# Altium footprint library CONECTER.PcbLib: 145 footprints (part 5 of 10)
Each footprint in its own frame and in the unit in brackets; x right, y up, seen from the top. Pads: shape width x height; smd on the part's side, far side on the other; paste and mask are expansions set on the pad; w line width, h text height; cw(c..) or ccw(c..) is an arc to the next point about the centre after c.
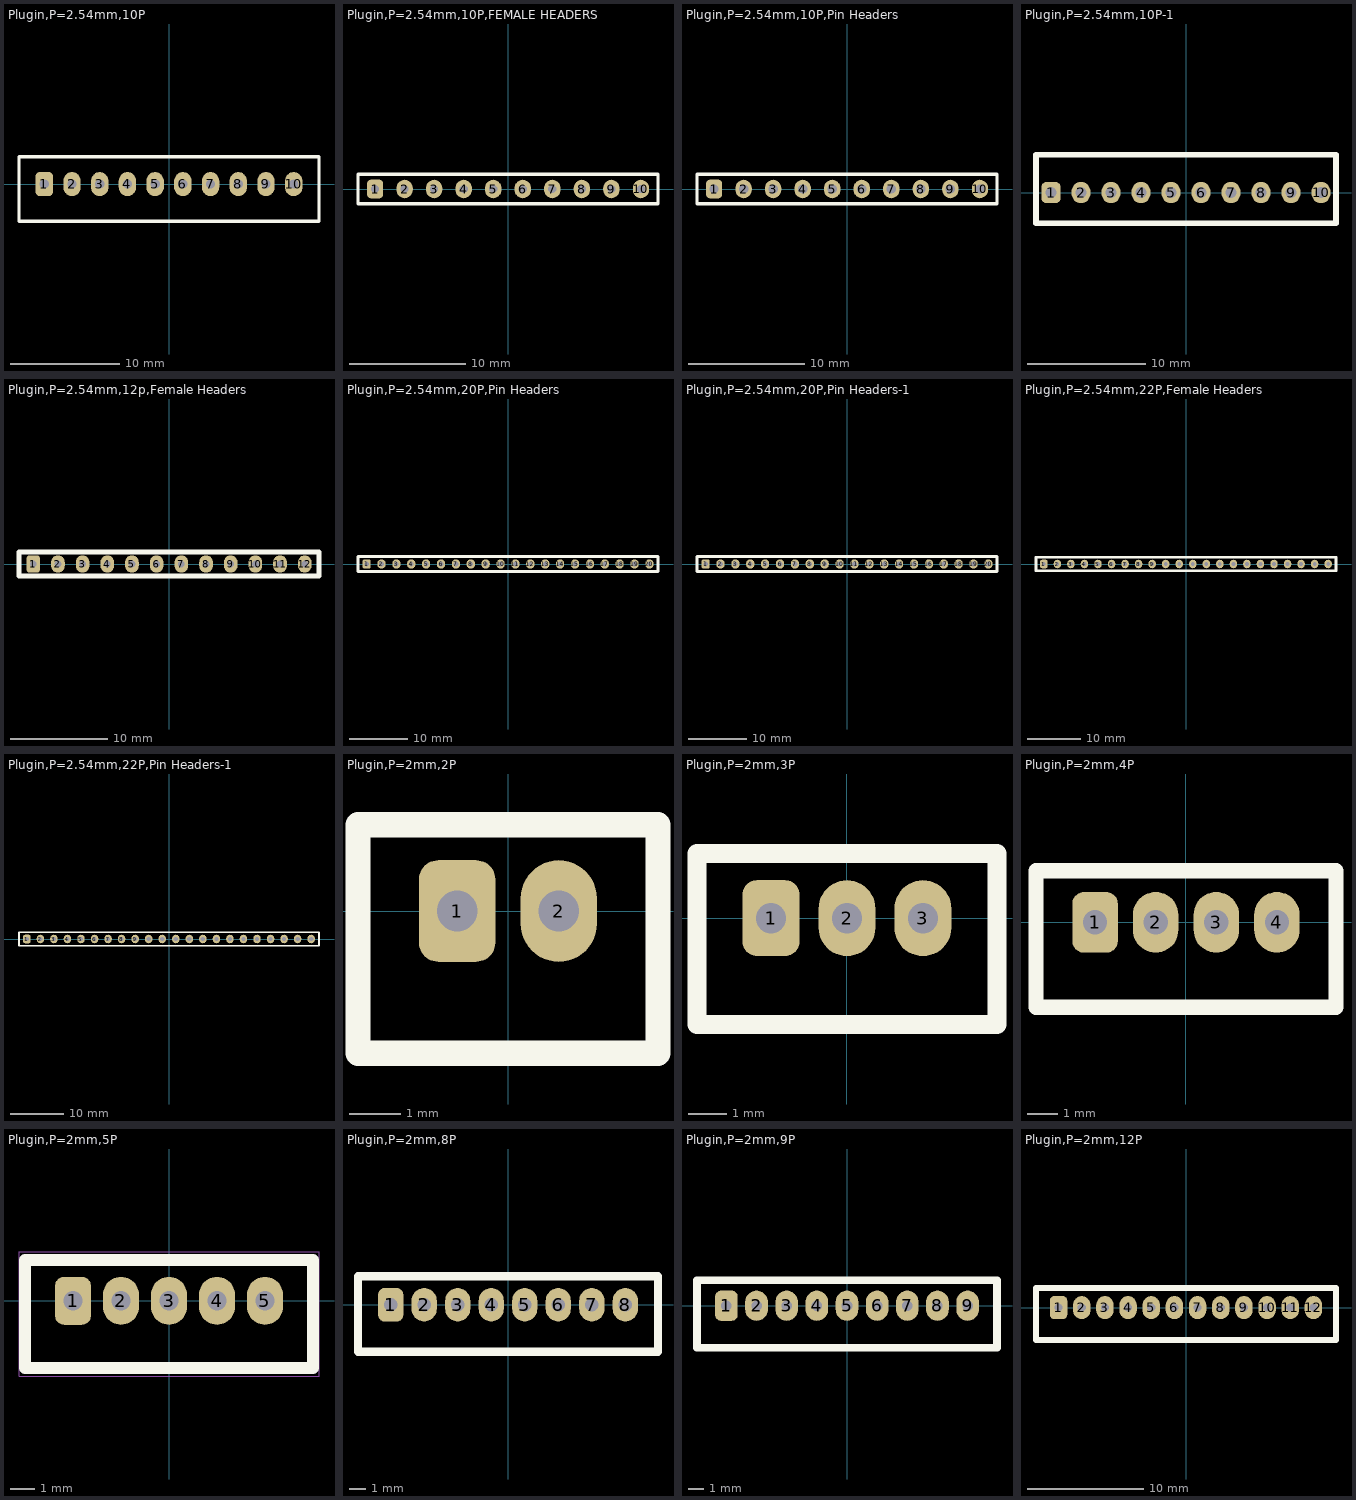
[diagram p4: the footprints below, top view; thin cyan lines are the x and y axes]

## Plugin,P=2.54mm,10P [mm]
pads (10):
  rrect50% 1.6x2.2 hole 0.85: 1(-11.43,0)
  oval 1.6x2.2 hole 0.85: 2(-8.89,0) 3(-6.35,0) 4(-3.81,0) 5(-1.27,0) 6(1.27,0) 7(3.81,0) 8(6.35,0) 9(8.89,0) 10(11.43,0)
Top Overlay:
  lines w0.3: -13.75,-3.4 13.75,-3.4 13.75,2.5 -13.75,2.5 -13.75,-3.4
3D body "JST_-_XH_-_Thru_(V)_-_10Pin_-_2.54mm[1].stp": height 7.21, standoff -3, extent -13.767,-3.353 13.767,2.489

## Plugin,P=2.54mm,10P,FEMALE HEADERS [mm]
pads (10):
  rrect50% 1.4x1.6 hole 0.7 mask+0.15: 1(-11.43,0)
  oval 1.4x1.6 hole 0.7 mask+0.15: 2(-8.89,0) 3(-6.35,0) 4(-3.81,0) 5(-1.27,0) 6(1.27,0) 7(3.81,0) 8(6.35,0) 9(8.89,0) 10(11.43,0)
Top Overlay:
  lines w0.3: -12.9,-1.25 12.9,-1.25 12.9,1.25 -12.9,1.25 -12.9,-1.25
3D body "FH01-05SS.stp": height 8.5, standoff -3.2, extent 0,-1.27 12.7,1.23
3D body "FH01-05SS.stp": height 8.5, standoff -3.2, extent -12.7,-1.27 0,1.23

## Plugin,P=2.54mm,10P,Pin Headers [mm]
pads (10):
  rrect50% 1.4x1.6 hole 0.8 mask+0.15: 1(-11.43,0)
  oval 1.4x1.6 hole 0.8 mask+0.15: 2(-8.89,0) 3(-6.35,0) 4(-3.81,0) 5(-1.27,0) 6(1.27,0) 7(3.81,0) 8(6.35,0) 9(8.89,0) 10(11.43,0)
Top Overlay:
  lines w0.3: -12.9,-1.25 -12.9,1.25 12.9,1.25 12.9,-1.25 -12.9,-1.25
3D body "10-Pin Header - Male - 2.54mm.step": height 8.89, standoff -3.05, extent -12.7,-1.27 12.7,1.27

## Plugin,P=2.54mm,10P-1 [mm]
pads (10):
  rrect50% 1.6x1.8 hole 0.9: 1(-11.43,0)
  oval 1.6x1.8 hole 0.9: 2(-8.89,0) 3(-6.35,0) 4(-3.81,0) 5(-1.27,0) 6(1.27,0) 7(3.81,0) 8(6.35,0) 9(8.89,0) 10(11.43,0)
Top Overlay:
  lines w0.5: -12.7,-2.6 -12.7,3.2 12.7,3.2 12.7,-2.6 -12.7,-2.6
3D body "1-640456-0.STEP": height 10.03, standoff -3.94, extent -12.7,-2.54 12.7,3.175

## Plugin,P=2.54mm,12p,Female Headers [mm]
pads (12):
  rrect50% 1.4x1.8 hole 0.7: 1(-13.97,0)
  oval 1.4x1.8 hole 0.7: 2(-11.43,0) 3(-8.89,0) 4(-6.35,0) 5(-3.81,0) 6(-1.27,0) 7(1.27,0) 8(3.81,0) 9(6.35,0) 10(8.89,0) 11(11.43,0) 12(13.97,0)
Top Overlay:
  lines w0.5: -15.44,-1.25 -15.44,1.25 15.44,1.25 15.44,-1.25 -15.44,-1.25
3D body "FH01-06SS.stp": height 8.5, standoff -3.2, extent -15.24,-1.224 0,1.276
3D body "FH01-06SS.stp": height 8.5, standoff -3.2, extent 0,-1.224 15.24,1.276

## Plugin,P=2.54mm,20P,Pin Headers [mm]
pads (20):
  rrect50% 1.4x1.6 hole 0.8 mask+0.15: 1(-24.13,0)
  oval 1.4x1.6 hole 0.8 mask+0.15: 2(-21.59,0) 3(-19.05,0) 4(-16.51,0) 5(-13.97,0) 6(-11.43,0) 7(-8.89,0) 8(-6.35,0) 9(-3.81,0) 10(-1.27,0) 11(1.27,0) 12(3.81,0) 13(6.35,0) 14(8.89,0) 15(11.43,0) 16(13.97,0) 17(16.51,0) 18(19.05,0) 19(21.59,0) 20(24.13,0)
Top Overlay:
  lines w0.5: -25.6,-1.25 25.6,-1.25 25.6,1.25 -25.6,1.25 -25.6,-1.25
3D body "20-Pin Header - Male - 2.54mm.step": height 8.89, standoff -3.05, extent -25.4,-1.27 25.4,1.27

## Plugin,P=2.54mm,20P,Pin Headers-1 [mm]
pads (20):
  rrect50% 1.4x1.6 hole 0.8 mask+0.15: 1(-24.13,0)
  oval 1.4x1.6 hole 0.8 mask+0.15: 2(-21.59,0) 3(-19.05,0) 4(-16.51,0) 5(-13.97,0) 6(-11.43,0) 7(-8.89,0) 8(-6.35,0) 9(-3.81,0) 10(-1.27,0) 11(1.27,0) 12(3.81,0) 13(6.35,0) 14(8.89,0) 15(11.43,0) 16(13.97,0) 17(16.51,0) 18(19.05,0) 19(21.59,0) 20(24.13,0)
Top Overlay:
  lines w0.5: -25.6,-1.25 -25.6,1.25 25.6,1.25 25.6,-1.25 -25.6,-1.25
3D body "68655-220.STEP": height 10.61, standoff -7.37, extent -25.4,-1.2 25.4,1.2

## Plugin,P=2.54mm,22P,Female Headers [mm]
pads (22):
  rrect50% 1.4x1.6 hole 0.7 mask+0.15: 1(-26.67,0)
  oval 1.4x1.6 hole 0.7 mask+0.15: 2(-24.13,0) 3(-21.59,0) 4(-19.05,0) 5(-16.51,0) 6(-13.97,0) 7(-11.43,0) 8(-8.89,0) 9(-6.35,0) 10(-3.81,0) 11(-1.27,0) 12(1.27,0) 13(3.81,0) 14(6.35,0) 15(8.89,0) 16(11.43,0) 17(13.97,0) 18(16.51,0) 19(19.05,0) 20(21.59,0) 21(24.13,0) 22(26.67,0)
Top Overlay:
  lines w0.5: -28.14,-1.25 28.14,-1.25 28.14,1.25 -28.14,1.25 -28.14,-1.25
3D body "Female Header Pitch 2.54mm 1x22.stp": height 8.5, standoff -3.13, extent -27.92,-1.25 27.92,1.25

## Plugin,P=2.54mm,22P,Pin Headers-1 [mm]
pads (22):
  rrect50% 1.4x1.6 hole 0.8 mask+0.15: 1(-26.67,0)
  oval 1.4x1.6 hole 0.8 mask+0.15: 2(-24.13,0) 3(-21.59,0) 4(-19.05,0) 5(-16.51,0) 6(-13.97,0) 7(-11.43,0) 8(-8.89,0) 9(-6.35,0) 10(-3.81,0) 11(-1.27,0) 12(1.27,0) 13(3.81,0) 14(6.35,0) 15(8.89,0) 16(11.43,0) 17(13.97,0) 18(16.51,0) 19(19.05,0) 20(21.59,0) 21(24.13,0) 22(26.67,0)
Top Overlay:
  lines w0.3: -28.14,-1.25 -28.14,1.25 28.14,1.25 28.14,-1.25 -28.14,-1.25
3D body "68655-422HLF.STEP": height 10.61, standoff -7.37, extent -27.94,-1.205 27.94,1.205

## Plugin,P=2mm,2P [mm]
pads (2):
  rrect50% 1.5x2 hole 0.8 mask+0.15: 1(-1,0)
  oval 1.5x2 hole 0.8 mask+0.15: 2(1,0)
Top Overlay:
  lines w0.5: -2.95,-2.8 -2.95,1.7 2.95,1.7 2.95,-2.8 -2.95,-2.8
3D body "B2B-PH-K-S.stp": height 6, standoff -3.4, extent -2.95,-2.8 2.95,1.7

## Plugin,P=2mm,3P [mm]
pads (3):
  rrect50% 1.5x2 hole 0.8 mask+0.15: 1(-2,0)
  oval 1.5x2 hole 0.8 mask+0.15: 2(0,0) 3(2,0)
Top Overlay:
  lines w0.5: -3.95,-2.8 -3.95,1.7 3.95,1.7 3.95,-2.8 -3.95,-2.8
3D body "B3B-PH-K-S.stp": height 6, standoff -3.4, extent -3.95,-2.8 3.95,1.7

## Plugin,P=2mm,4P [mm]
pads (4):
  rrect50% 1.5x2 hole 0.8 mask+0.15: 1(-3,0)
  oval 1.5x2 hole 0.8 mask+0.15: 2(-1,0) 3(1,0) 4(3,0)
Top Overlay:
  lines w0.5: -4.95,-2.8 4.95,-2.8 4.95,1.7 -4.95,1.7 -4.95,-2.8
3D body "B4B-PH-K-S.stp": height 6, standoff -3.4, extent -4.95,-2.8 4.95,1.7

## Plugin,P=2mm,5P [mm]
pads (5):
  rrect50% 1.5x2 hole 0.8 mask+0.15: 1(-4,0)
  oval 1.5x2 hole 0.8 mask+0.15: 2(-2,0) 3(0,0) 4(2,0) 5(4,0)
Top Overlay:
  lines w0.5: -6,-2.8 -6,1.7 6,1.7 6,-2.8 -6,-2.8
3D:
  lines w0.127: -6,-2.9 -6,1.8 ; -6,-2.9 6,-2.9 ; -6,-2.9 -6,1.8 ; -6,-2.9 6,-2.9 ; -6,1.8 6,1.8 ; 6,-2.9 6,1.8 ; 6,-2.9 6,1.8
Mechanical 15:
  lines w0.05: -6.25,-3.15 -6.25,2.05 6.25,2.05 6.25,-3.15 -6.25,-3.15
3D body "B5B-PH-K-S.stp": height 6, standoff -3.4, extent -5.95,-2.8 5.95,1.7

## Plugin,P=2mm,8P [mm]
pads (8):
  rrect50% 1.5x2 hole 0.8 mask+0.15: 1(-7,0)
  oval 1.5x2 hole 0.8 mask+0.15: 2(-5,0) 3(-3,0) 4(-1,0) 5(1,0) 6(3,0) 7(5,0) 8(7,0)
Top Overlay:
  lines w0.5: -8.95,-2.8 8.95,-2.8 8.95,1.7 -8.95,1.7 -8.95,-2.8
3D body "B8B-PH-K-S.stp": height 6, standoff -3.4, extent -8.95,-2.8 8.95,1.7

## Plugin,P=2mm,9P [mm]
pads (9):
  rrect50% 1.5x2 hole 0.7 mask+0.15: 1(-8,0)
  oval 1.5x2 hole 0.7 mask+0.15: 2(-6,0) 3(-4,0) 4(-2,0) 5(0,0) 6(2,0) 7(4,0) 8(6,0) 9(8,0)
Top Overlay:
  lines w0.5: -9.95,-2.8 9.95,-2.8 9.95,1.7 -9.95,1.7 -9.95,-2.8
3D body "JST-B9B-PH-K-S.STEP": height 6, standoff -3.4, extent -9.95,-2.8 9.95,1.7

## Plugin,P=2mm,12P [mm]
pads (12):
  rrect50% 1.5x2 hole 0.7 mask+0.15: 1(-11,0)
  oval 1.5x2 hole 0.7 mask+0.15: 2(-9,0) 3(-7,0) 4(-5,0) 5(-3,0) 6(-1,0) 7(1,0) 8(3,0) 9(5,0) 10(7,0) 11(9,0) 12(11,0)
Top Overlay:
  lines w0.5: -12.95,-2.8 -12.95,1.7 12.95,1.7 12.95,-2.8 -12.95,-2.8